# Altium integrated library L7915CV.IntLib: 1 symbol
Pins are listed as number, name and electrical type; pins without a type are passive.

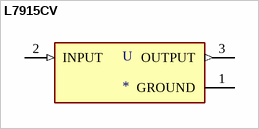
[diagram p0: symbol L7915CV]

## L7915CV
designator U
Linear Voltage Regulator IC 1 Output 1.5A TO-220AB; MF: STMicroelectronics; MP: L7915CV; Value: *; Package: TO-220 STMicroelectronics; Availability: Unavailable; SnapEDA_Link: https://www.snapeda.com/parts/L7915CV/STMicroelectronics/view-part/8087/?ref=snap; Price: None
footprint TO255P1040X460X1935-3
pins: 1 GROUND (power), 2 INPUT (in), 3 OUTPUT (out)